# EAGLE library part 157112B12700 (library 157112B12700)
Display Modules - LED Character and Numeric Blue 7-Segment 1 Character Common Cathode 3V 20mA 0.472" H x 0.287" W x 0.157" D (12.00mm x 7.30mm x 4.00mm) 10-SMD, No Lead Source: Datasheet <https://www.we-online.com/components/products/datasheet/157112B12700.pdf>
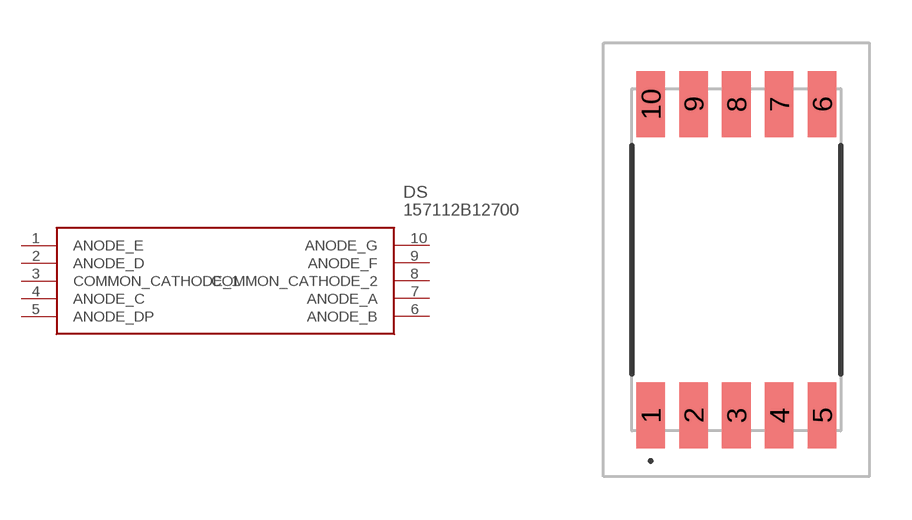
[diagram p0: symbol with the pads of 157112B12700; footprint 157112B12700]

Designator prefix DS

## 157112B12700 (Description: Display Modules - LED Character and Numeric Blue 7-Segment 1 Character Common Cathode 3V 20mA 0.472" H x 0.287" W x 0.157" D (12.00mm x 7.30mm x 4.00mm) 10-SMD, No Lead; Height: 4mm; Manufacturer_Name: Wurth Elektronik; Manufacturer_Part_Number: 157112B12700; Mouser_Part_Number: 710-157112B12700; Mouser_Price-Stock: https://www.mouser.co.uk/ProductDetail/Wurth-Elektronik/157112B12700?qs=rQFj71Wb1eVSAYtPD7F%2FgQ%3D%3D)  [157112B12700]
1  ANODE_E
2  ANODE_D
3  COMMON_CATHODE_1
4  ANODE_C
5  ANODE_DP
6  ANODE_B
7  ANODE_A
8  COMMON_CATHODE_2
9  ANODE_F
10  ANODE_G

## Footprint 157112B12700 (pad centres in mm)
10-SMD
smd 1 x 2.3: 1 -3,-5.45; 2 -1.5,-5.45; 3 0,-5.45; 4 1.5,-5.45; 5 3,-5.45; 6 3,5.45; 7 1.5,5.45; 8 0,5.45; 9 -1.5,5.45; 10 -3,5.45